# EAGLE library part JOY_IT_PRO_MICRO (library LickportLibrary)
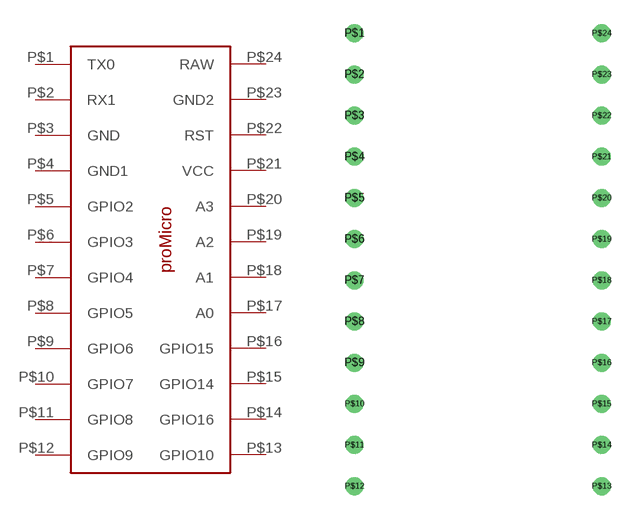
[diagram p0: symbol with the pads of JOY_IT_PRO_MICRO; footprint JOY_IT_PRO_MICRO]

Designator prefix -

## JOY_IT_PRO_MICRO  [JOY_IT_PRO_MICRO]
P$1  TX0
P$2  RX1
P$3  GND
P$4  GND1
P$5  GPIO2
P$6  GPIO3
P$7  GPIO4
P$8  GPIO5
P$9  GPIO6
P$10  GPIO7
P$11  GPIO8
P$12  GPIO9
P$13  GPIO10
P$14  GPIO16
P$15  GPIO14
P$16  GPIO15
P$17  A0
P$18  A1
P$19  A2
P$20  A3
P$21  VCC
P$22  RST
P$23  GND2
P$24  RAW

## Footprint JOY_IT_PRO_MICRO (pad centres in mm)
drill 0.6: P$1 -10.16,27.94; P$2 -10.16,25.4; P$3 -10.16,22.86; P$4 -10.16,20.32; P$5 -10.16,17.78; P$6 -10.16,15.24; P$7 -10.16,12.7; P$8 -10.16,10.16; P$9 -10.16,7.62; P$10 -10.16,5.08; P$11 -10.16,2.54; P$12 -10.16,0; P$13 5.08,0; P$14 5.08,2.54; P$15 5.08,5.08; P$16 5.08,7.62; P$17 5.08,10.16; P$18 5.08,12.7; P$19 5.08,15.24; P$20 5.08,17.78; P$21 5.08,20.32; P$22 5.08,22.86; P$23 5.08,25.4; P$24 5.08,27.94